# EAGLE library part C8051F860 (library Zoli2_2015-01-28)
Silabs Microcontroller. Datasheet: http://www.silabs.com/Support%20Documents/TechnicalDocs/C8051F85x-86x.pdf
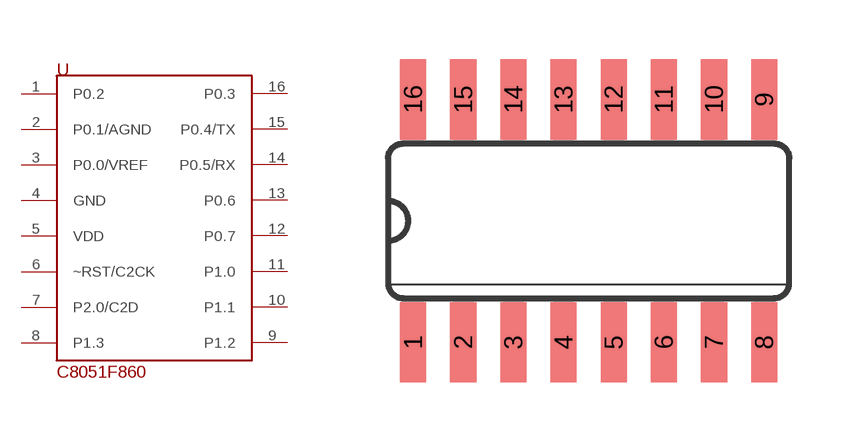
[diagram p75: symbol with the pads of SO16; footprint SO16]

Designator prefix -

## C8051F860  [SO16]
1  P0.2
2  P0.1/AGND  pwr
3  P0.0/VREF
4  GND  pwr
5  VDD  pwr
6  ~RST/C2CK
7  P2.0/C2D
8  P1.3
9  P1.2
10  P1.1
11  P1.0
12  P0.7
13  P0.6
14  P0.5/RX
15  P0.4/TX
16  P0.3

## Footprint SO16 (pad centres in mm)
Small Outline Package .150 SIOC Source: http://www.maxim-ic.com/package_drawings/21-0041B.pdf
smd 0.66 x 2.032: 1 -4.445,-3.073; 2 -3.175,-3.073; 3 -1.905,-3.073; 4 -0.635,-3.073; 5 0.635,-3.073; 6 1.905,-3.073; 7 3.175,-3.073; 8 4.445,-3.073; 9 4.445,3.073; 10 3.175,3.073; 11 1.905,3.073; 12 0.635,3.073; 13 -0.635,3.073; 14 -1.905,3.073; 15 -3.175,3.073; 16 -4.445,3.073